# Altium footprint library Fab notes Lead Free.PcbLib: 1 footprints
Each footprint in its own frame and in the unit in brackets; x right, y up, seen from the top. Pads: shape width x height; smd on the part's side, far side on the other; paste and mask are expansions set on the pad; w line width, h text height; cw(c..) or ccw(c..) is an arc to the next point about the centre after c.
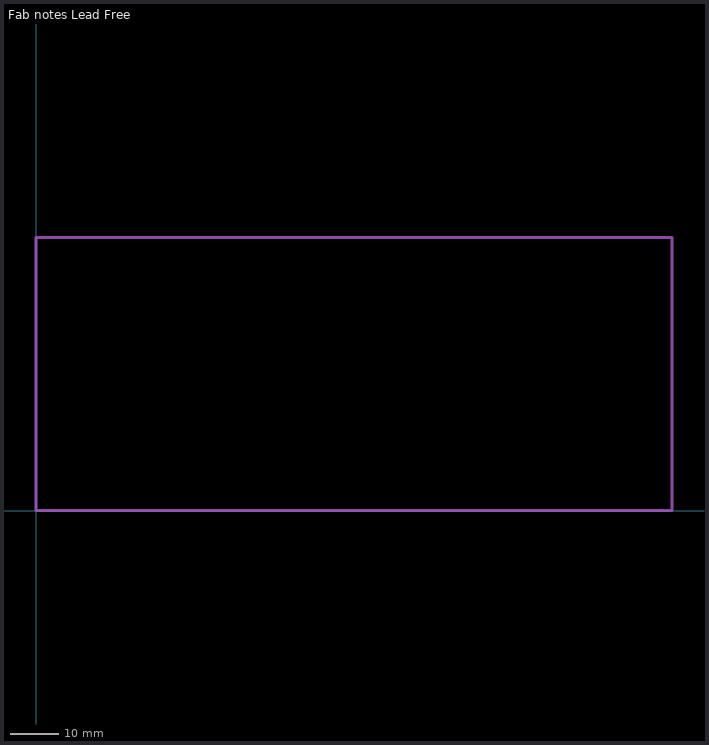
[diagram p0: the footprint, top view; thin cyan lines are the x and y axes]

## Fab notes Lead Free [mm]
Mechanical 2:
  lines w0.61: -0.102,51.099 -0.102,56.179 130.718,56.179 130.718,0 -0.102,0 -0.102,53.639
  text "11.CIRCUIT FINISH TYPE WILL BE ELECTROLESS NICKEL/IMMERSION GOLD (ENIG):" at 2.653,7.396 h1.52
  text ".005in FROM TRUE PAD CENTER." at 6.899,13.221 h1.52
  text "0.0000" at -0.102,4.363 h0.03
  text "10.SILKSCREEN BOARD WITH WHITE EPOXY INK." at 2.489,10.553 h1.52
  text "9. APPLY LPI SOLDERMASK TO BOTH SIDES OF THE BOARD, GREEN MATTE FINISH, SHALL MEET" at 2.435,19.156 h1.52
  text "A MINIMUM ANNULAR RING OF 0.002in." at 6.573,21.932 h1.52
  text "8. PLATED HOLES SHALL HAVE A MINIMUM WALL THICKNESS OF 0.001in AND" at 2.326,24.927 h1.52
  text "7. ALL HOLES PLATED" at 2.272,27.921 h1.52
  text "5. BOARD THICKNESS WILL BE .031in, +/- 10% MEASURED OVER ALL APPLIED FINISHES" at 1.999,33.965 h1.52
  text "4. 1 OZ. COPPER, ALL LAYERS" at 1.945,36.687 h1.52
  text "BOARDS AND MULTILAYER BOARDS." at 21.148,39.323 h1.52
  text "LEAD FREE, IN ACCORDANCE WITH ROHS, IPC-4101/124 MINIMUM FOR DOUBLE SIDED" at 21.1,41.939 h1.52
  text "3. MATERIAL:" at 1.93,41.955 h1.52
  text "2. FABRICATE IN ACCORDANCE WITH ANSI/IPC-600F,CLASS 2" at 1.93,44.495 h1.52
  text "1. DRAWING PRESENTS TOP OF PCB" at 2.184,47.035 h1.52
  text "NOTE: UNLESS OTHERWISE SPECIFIED" at 2.184,50.21 h1.52
  text "6. FINISHED CONDUCTOR WIDTHS TO BE +/- .001in PER SIDE OF MASTER PATTERN SIZE." at 2.108,31.025 h1.52
  text "MINIMUM REQUIREMENTS OF IPC-SM-840 CLASS III. SOLDERMASK REGISTRATION SHALL BE" at 6.79,16.161 h1.52
  text "ELECTROLESS NICKEL THICKNESS SHALL BE 120 TO 240 uIN." at 6.502,4.521 h1.52
  text "IMMERSION GOLD THICKNESS SHALL BE 2 TO 4 uIN." at 6.477,1.778 h1.52
Mechanical 4:
  text "0" at -0.102,4.363 h0.03